# Altium schematic symbol library SG_SCH_Power_Management.SchLib: 80 symbols
Pins are listed as number, name and electrical type; pins without a type are passive.

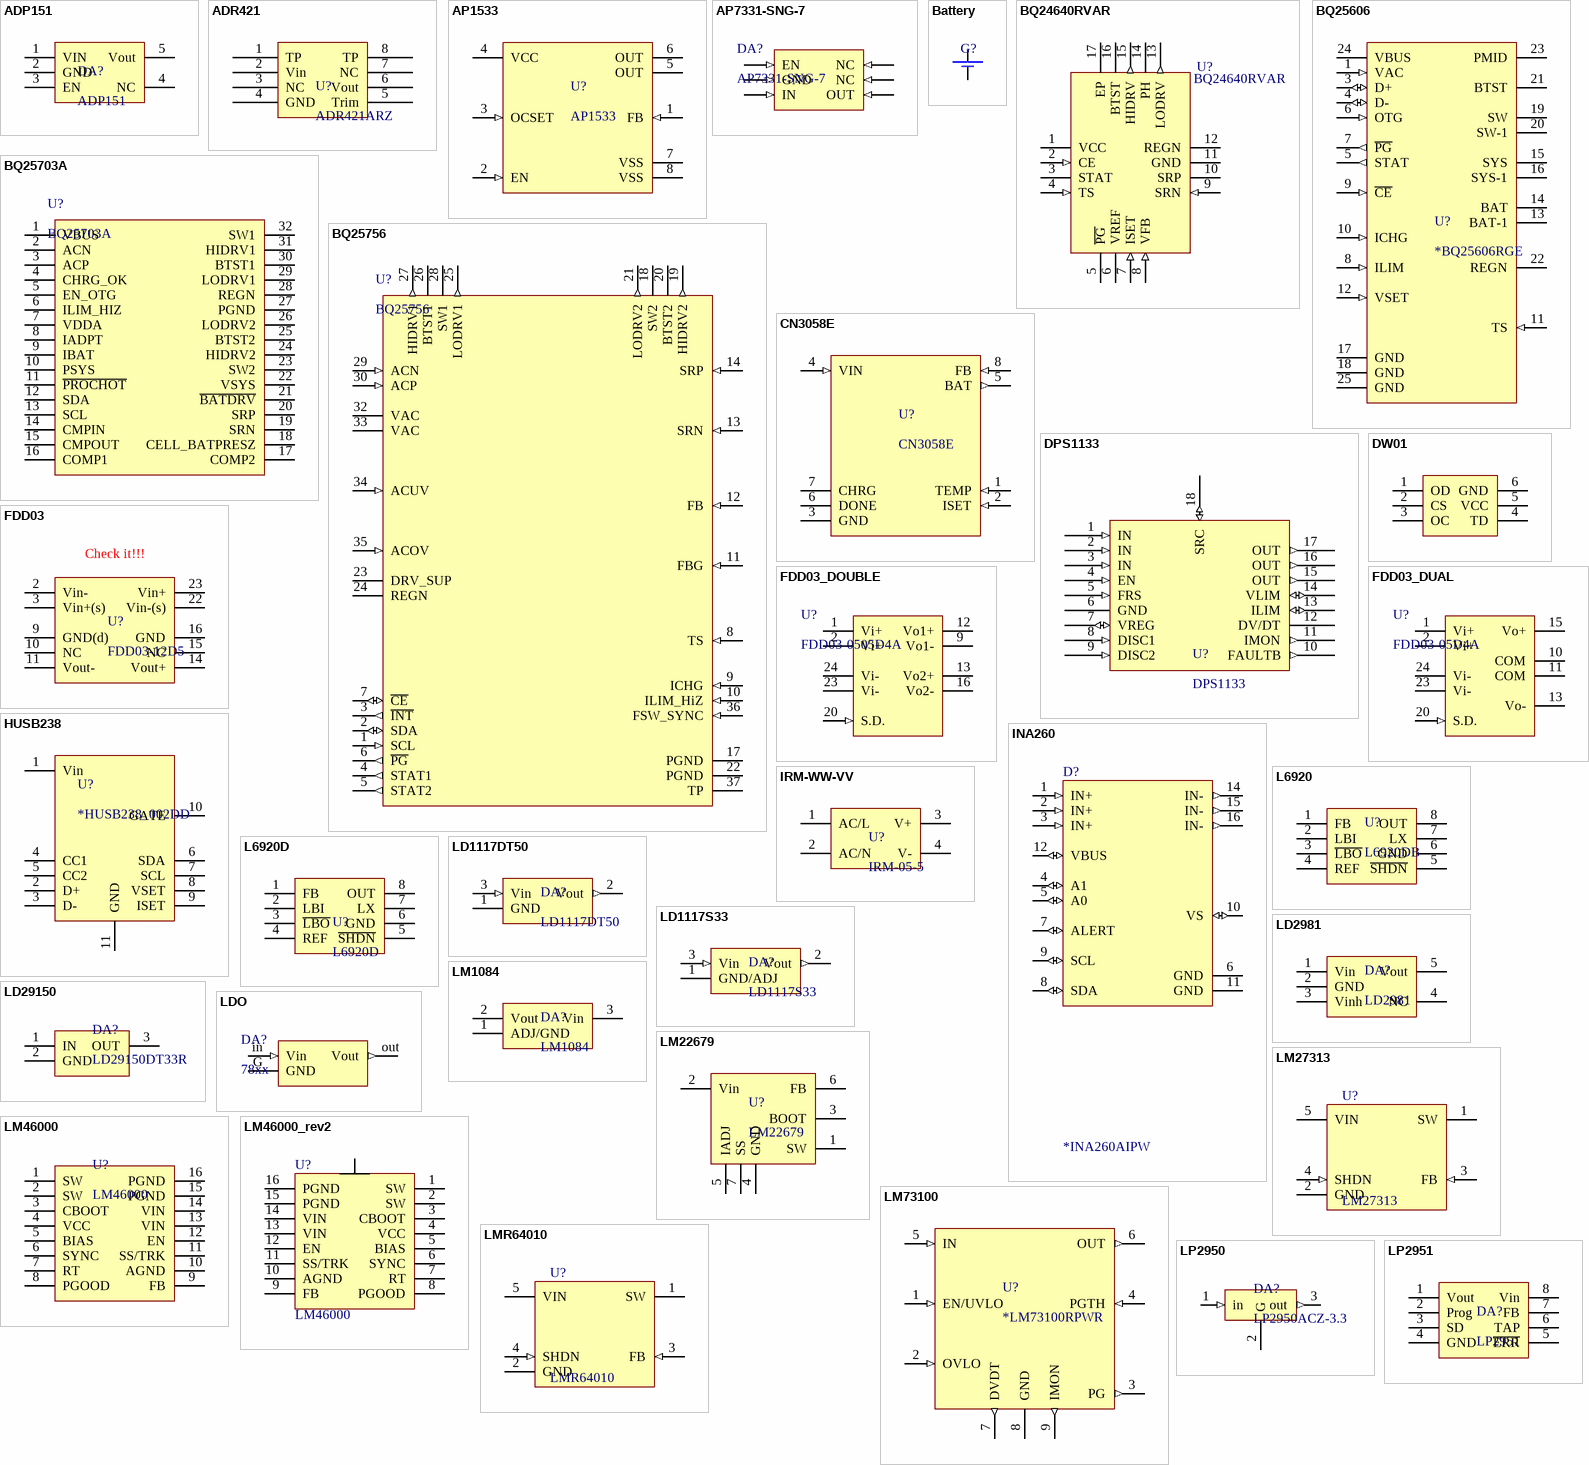
[diagram p0: symbols ADP151 to LP2951]

## ADP151
designator DA?
Ultralow Noise, 200 mA,CMOS Linear Regulator; DefaultOrder: ADP151AUJZ-1.8-R7; Original Source: AltTabLibrary; Order: *; LCSC Part: *
footprint SOT23-5
pins: 1 VIN (power), 2 GND (power), 3 EN, 4 NC, 5 Vout (power)

## ADR421
designator U?, comment ADR421ARZ
2.5V Ref Gen; Original Source: AltTabLibrary; Order: *; DefaultOrder: *; LCSC Part: *
footprint SO-8 (Small Outline; 8 Leads; Body Width 3.9 mm; Pitch 1.27 mm)
pins: 1 TP, 2 Vin, 3 NC, 4 GND, 5 Trim, 6 Vout, 7 NC, 8 TP

## AP1533
designator U?
PWM CONTROL 1.8A STEP-DOWN CONVERTER; OriginalSource: BMChargerEval; Order: *
pins: 1 FB (in), 2 EN (in), 3 OCSET (in), 4 VCC (power), 5 OUT (power), 6 OUT (power), 7 VSS (power), 8 VSS (power)

## AP7331-SNG-7
designator DA?
LDO 3.3V; Original Source: AltTabLibrary; Order: *; DefaultOrder: *; LCSC Part: *
footprint DFN-6N_AP7331-SNG-7 (QFN, 6-Leads, Body 2,01x2,01mm, Pitch 0,65mm, Thermal Pad 1,55x0,86mm, IPC Medium Density)
pins: 1 EN (in), 2 GND (in), 3 IN (in), 4 OUT (in), 5 NC (in), 6 NC (in)

## Battery
designator G?  (value not drawn)
BATTERY SLOT or CONNECTOR; Original Source: AltTabLibrary; Order: *; DefaultOrder: *; LCSC Part: *
footprint BH-642
footprint 2wire; pin to pad A>2 K>1
footprint CWF-2
footprint PLS-2-2.54
pins: A (power), K (power)

## BQ24640RVAR
designator U?
High-efficiency Synchronous Switched-Mode Super Capacitor Charger; Original Source: Charger Sch by AnRx; Datasheet Link: http://componentsearchengine.com/Datasheets/1/BQ24640RVAR.pdf; Height: 1mm; Order: BQ24640RVAR; DefaultOrder: BQ24640RVAR; LCSC Part: *
footprint QFN50P350X350X100-17N-D
pins: 1 VCC (power), 2 CE (in), 3 STAT (oc), 4 TS (in), 5 ~{PG} (oc), 6 VREF (power), 7 ISET (in), 8 VFB (in), 9 SRN (in), 10 SRP (power), 11 GND (power), 12 REGN (power), 13 LODRV (out), 14 PH (power), 15 HIDRV (out), 16 BTST (power), 17 EP (power)

## BQ25606
designator U?, comment *BQ25606RGE
Stand Alone single cell 3-A Fast charger with High input voltageand Power Path 24-VQFN -40 to 85; Order: *BQ25606RGE
footprint QFN-24 (BQ25606) (Footprint not found)
pins: 1 VAC (in), 3 D+ (io), 4 D- (io), 5 STAT (out), 6 OTG (in), 7 ~{PG} (out), 8 ILIM (in), 9 ~{CE} (in), 10 ICHG (in), 11 TS (in), 12 VSET (in), 13 BAT-1 (power), 14 BAT (power), 15 SYS (power), 16 SYS-1 (power), 17 GND (power), 18 GND (power), 19 SW (power), 20 SW-1 (power), 21 BTST (power), 22 REGN (power), 23 PMID (power), 24 VBUS (power), 25 GND (power)

## BQ25703A
designator U?
CHRG; Original Source: AltTabLibrary; Order: *; DefaultOrder: *; LCSC Part: *
footprint BQ25703A (QFN, 32-Leads, Body 4,00x4,00mm, Pitch 0,40mm, Thermal Pad 2,80x2,80mm, IPC Medium Density)
pins: 1 VBUS, 2 ACN, 3 ACP, 4 CHRG_OK, 5 EN_OTG, 6 ILIM_HIZ, 7 VDDA, 8 IADPT, 9 IBAT, 10 PSYS, 11 ~{PROCHOT}, 12 SDA, 13 SCL, 14 CMPIN, 15 CMPOUT, 16 COMP1, 17 COMP2, 18 CELL_BATPRESZ, 19 SRN, 20 SRP, 21 ~{BATDRV}, 22 VSYS, 23 SW2, 24 HIDRV2, 25 BTST2, 26 LODRV2, 27 PGND, 28 REGN, 29 LODRV1, 30 BTST1, 31 HIDRV1, 32 SW1

## BQ25756
designator U?
Standalone/I2C Controlled, 1- to 14-Cell Bidirectional Buck-Boost Battery / Charge Controller with MPPT; Order: *BQ25756
footprint VQFN-36 (BQ25756) (QFN, 36-Leads, Body 5,00x6,00mm, Pitch 0,50mm, Thermal Pad 3,60x4,60mm, IPC Medium Density)
pins: 1 SCL (in), 2 SDA (io), 3 ~{INT} (out), 4 STAT1 (out), 5 STAT2 (out), 6 ~{PG} (out), 7 ~{CE} (io), 8 TS (in), 9 ICHG (in), 10 ILIM_HiZ (in), 11 FBG (in), 12 FB (in), 13 SRN (in), 14 SRP (in), 17 PGND (power), 18 SW2 (power), 19 HIDRV2 (out), 20 BTST2 (power), 21 LODRV2 (out), 22 PGND (power), 23 DRV_SUP (power), 24 REGN (power), 25 LODRV1 (out), 26 BTST1 (power), 27 HIDRV1 (out), 28 SW1 (power), 29 ACN (in), 30 ACP (in), 32 VAC (power), 33 VAC (power), 34 ACUV (in), 35 ACOV (in), 36 FSW_SYNC (in), 37 TP (power)

## CN3058E
designator U?
Order: CN3058E
footprint SO-8 (Small Outline; 8 Leads; Body Width 3.9 mm; Pitch 1.27 mm)
pins: 1 TEMP (in), 2 ISET (in), 3 GND (power), 4 VIN (in), 5 BAT (out), 6 DONE (oc), 7 CHRG (oc), 8 FB (in)

## DPS1133
designator U?
Intellegent switch
pins: 1 IN (in), 2 IN (in), 3 IN (in), 4 EN (in), 5 FRS (in), 6 GND (power), 7 VREG (io), 8 DISC1 (in), 9 DISC2 (in), 10 FAULTB (out), 11 IMON (out), 12 DV/DT, 13 ILIM (io), 14 VLIM (io), 15 OUT (out), 16 OUT (out), 17 OUT (out), 18 SRC (io)

## DW01
designator DD?  (value not drawn)
BMS; Original Source: AltTabLibrary; Order: *; DefaultOrder: *; LCSC Part: *
footprint SOT23-6
pins: 1 OD, 2 CS, 3 OC, 4 TD, 5 VCC, 6 GND

## FDD03
designator U?, comment FDD03-12D5
Original Source: AltTabLibrary; Order: *; DefaultOrder: *; LCSC Part: *
pins: 2 Vin-, 3 Vin+(s), 9 GND(d), 10 NC, 11 Vout-, 14 Vout+, 15 NC, 16 GND, 22 Vin-(s), 23 Vin+
text: Check it!!!

## FDD03_DOUBLE
designator U?, comment FDD03-0505D4A
2.5-3W Double output DC/DC isolated module converter / 9..36Vin; Original Source: AltTabLibrary; Order: *; DefaultOrder: FDD03-0505D4A; LCSC Part: *
footprint MODULE_FDD03
pins: 1 Vi+ (power), 2 Vi+ (power), 9 Vo1- (power), 12 Vo1+ (power), 13 Vo2+ (power), 16 Vo2- (power), 20 S.D. (in), 23 Vi- (power), 24 Vi- (power)

## FDD03_DUAL
designator U?, comment FDD03-05D4A
2.5-3W Dual output DC/DC isolated module converter / 9..36Vin; Original Source: AltTabLibrary; Order: *; DefaultOrder: FDD03-05D4A; LCSC Part: *
footprint FDD03 (Footprint not found)
pins: 1 Vi+ (power), 2 Vi+ (power), 10 COM (power), 11 COM (power), 13 Vo- (power), 15 Vo+ (power), 20 S.D. (in), 23 Vi- (power), 24 Vi- (power)

## HUSB238
designator U?, comment *HUSB238_002DD
USB Type-C Power Delivery Sink / Controller; Order: *HUSB238_002DD
footprint DFN-10L (Footprint not found)
pins: 1 Vin, 2 D+, 3 D-, 4 CC1, 5 CC2, 6 SDA, 7 SCL, 8 VSET, 9 ISET, 10 GATE, 11 GND

## INA260
designator D?, comment *INA260AIPW
36V, 16-bit, precision i2c output current/voltage/power monitor w/ int. shunt resistor; Order: *INA260AIPW
footprint TSSOP-16
pins: 1 IN+ (in), 2 IN+ (in), 3 IN+ (in), 4 A1 (io), 5 A0 (io), 6 GND (power), 7 ALERT (io), 8 SDA (io), 9 SCL (io), 10 VS (io), 11 GND (power), 12 VBUS (io), 14 IN- (out), 15 IN- (out), 16 IN- (out)

## IRM-WW-VV
designator U?, comment IRM-05-5
WW Watt Single Output Encapsulated AC/DC VV Volt out; Original Source: AltTabLibrary; Order: *; DefaultOrder: IRM-05-5; LCSC Part: *
pins: 1 AC/L, 2 AC/N, 3 V+, 4 V-

## L6920
designator U?, comment L6920DB
IC DC-DC setp-up; Original Source: AltTabLibrary; DefaultOrder: L6920DB; Order: *; LCSC Part: *
footprint uSOP-8 (Footprint not found)
pins: 1 FB, 2 LBI, 3 ~{LBO}, 4 REF, 5 ~{SHDN}, 6 GND, 7 LX, 8 OUT

## L6920D
designator U?
step up DC-DC; Original Source: AltTabLibrary; DefaultOrder: L6920D; Order: *; LCSC Part: *
footprint TSSOP8 (TSOP, 8-Leads, Body 3,1x4,5mm (max), Pitch 0,65mm, IPC Medium Density)
pins: 1 FB, 2 LBI, 3 ~{LBO}, 4 REF, 5 ~{SHDN}, 6 GND, 7 LX, 8 OUT

## LD1117DT50
designator DA?
LDO 5V; DefaultOrder: LD1117DT50CTR; Original Source: AltTabLibrary; Order: *; LCSC Part: *
footprint TO-252
pins: 1 GND (power), 2 Vout (out), 3 Vin (in)

## LD1117S33
designator DA?
LDO 3.3V; Original Source: AltTabLibrary; DefaultOrder: LD1117S33; Order: *; LCSC Part: *
footprint SOT223
pins: 1 GND/ADJ (power), 2 Vout (out), 3 Vin (in)

## LD2981
designator DA?
Ultra low drop voltage regulator; Original Source: AltTabLibrary; Order: *; HelpURL: *; DefaultOrder: *; LCSC Part: *
footprint SOT23-5
pins: 1 Vin, 2 GND, 3 Vinh, 4 NC, 5 Vout

## LD29150
designator DA?, comment LD29150DT33R
VLDO; Original Source: AltTabLibrary; DefaultOrder: LD29150DT33R; Order: *; LCSC Part: *
footprint DPAK(TO-252)
pins: 1 IN, 2 GND, 3 OUT

## LDO
designator DA?, comment 78xx
Voltage regulator; Original Source: AltTabLibrary; Order: *; DefaultOrder: *; LCSC Part: *
pins: G GND (power), in Vin (in), out Vout (out)

## LM1084
designator DA?
Original Source: AltTabLibrary; DefaultOrder: LM1084; Order: *; LCSC Part: *
footprint TO-220
pins: 1 ADJ/GND, 2 Vout, 3 Vin

## LM22679
designator U?
Buck DC-DC; DefaultOrder: LM22679TJE-ADJ/NOPB; Original Source: AltTabLibrary; Order: *; LCSC Part: *
pins: 1 SW, 2 Vin, 3 BOOT, 4 GND, 5 IADJ, 6 FB, 7 SS

## LM27313
designator U?
1.6-MHz Boost Converter With 30-V Internal FET Switch; OriginalSource: MiniSat radio powerful; Order: *
footprint sop (Footprint not found)
footprint SOT23-5
pins: 1 SW (power), 2 GND (power), 3 FB (in), 4 SHDN (in), 5 VIN (power)

## LM46000
designator U?
DCDC; Original Source: AltTabLibrary; Order: *; HelpURL: *; DefaultOrder: *; LCSC Part: *
footprint HTSOOP-16 (Footprint not found)
pins: 1 SW, 2 SW, 3 CBOOT, 4 VCC, 5 BIAS, 6 SYNC, 7 RT, 8 PGOOD, 9 FB, 10 AGND, 11 SS/TRK, 12 EN, 13 VIN, 14 VIN, 15 PGND, 16 PGND

## LM46000_rev2
designator U?, comment LM46000
DCDC; DefaultOrder: LM46000PWP; Original Source: AltTabLibrary; HelpURL: *; Order: *; LCSC Part: *
footprint TSSOP-16H (Footprint not found)
pins: 1 SW, 2 SW, 3 CBOOT, 4 VCC, 5 BIAS, 6 SYNC, 7 RT, 8 PGOOD, 9 FB, 10 AGND, 11 SS/TRK, 12 EN, 13 VIN, 14 VIN, 15 PGND, 16 PGND, 17 PAD

## LM73100
designator U?, comment *LM73100RPWR
2.7-V to 23-V, 28-mOhm, 5.5-A load switch with integrated ideal diode & overvoltage protection; Order: *LM73100RPWR
footprint QFN-10 (LM73100RPWR) (Footprint not found)
pins: 1 EN/UVLO (in), 2 OVLO (in), 3 PG (out), 4 PGTH (in), 5 IN (in), 6 OUT (out), 7 DVDT (out), 8 GND (power), 9 IMON (out)

## LMR64010
designator U?
DefaultOrder: LMR64010XMFE/NOPB; OriginalSource: MiniSat radio powerful; Order: *
footprint sop (Footprint not found)
footprint SOT23-5
pins: 1 SW (power), 2 GND (power), 3 FB (in), 4 SHDN (in), 5 VIN (power)

## LP2950
designator DA?, comment LP2950ACZ-3.3
LDO 3.3V 100mA; Original Source: AltTabLibrary; Order: *; DefaultOrder: *; LCSC Part: *
footprint TO-92
pins: 1 in (in), 2 G (power), 3 out (out)

## LP2951
designator DA?
Original Source: AltTabLibrary; Order: *; HelpURL: *; DefaultOrder: *; LCSC Part: *
footprint SO-8 (Small Outline; 8 Leads; Body Width 3.9 mm; Pitch 1.27 mm)
pins: 1 Vout, 2 Prog, 3 SD, 4 GND, 5 ~{ERR}, 6 TAP, 7 FB, 8 Vin

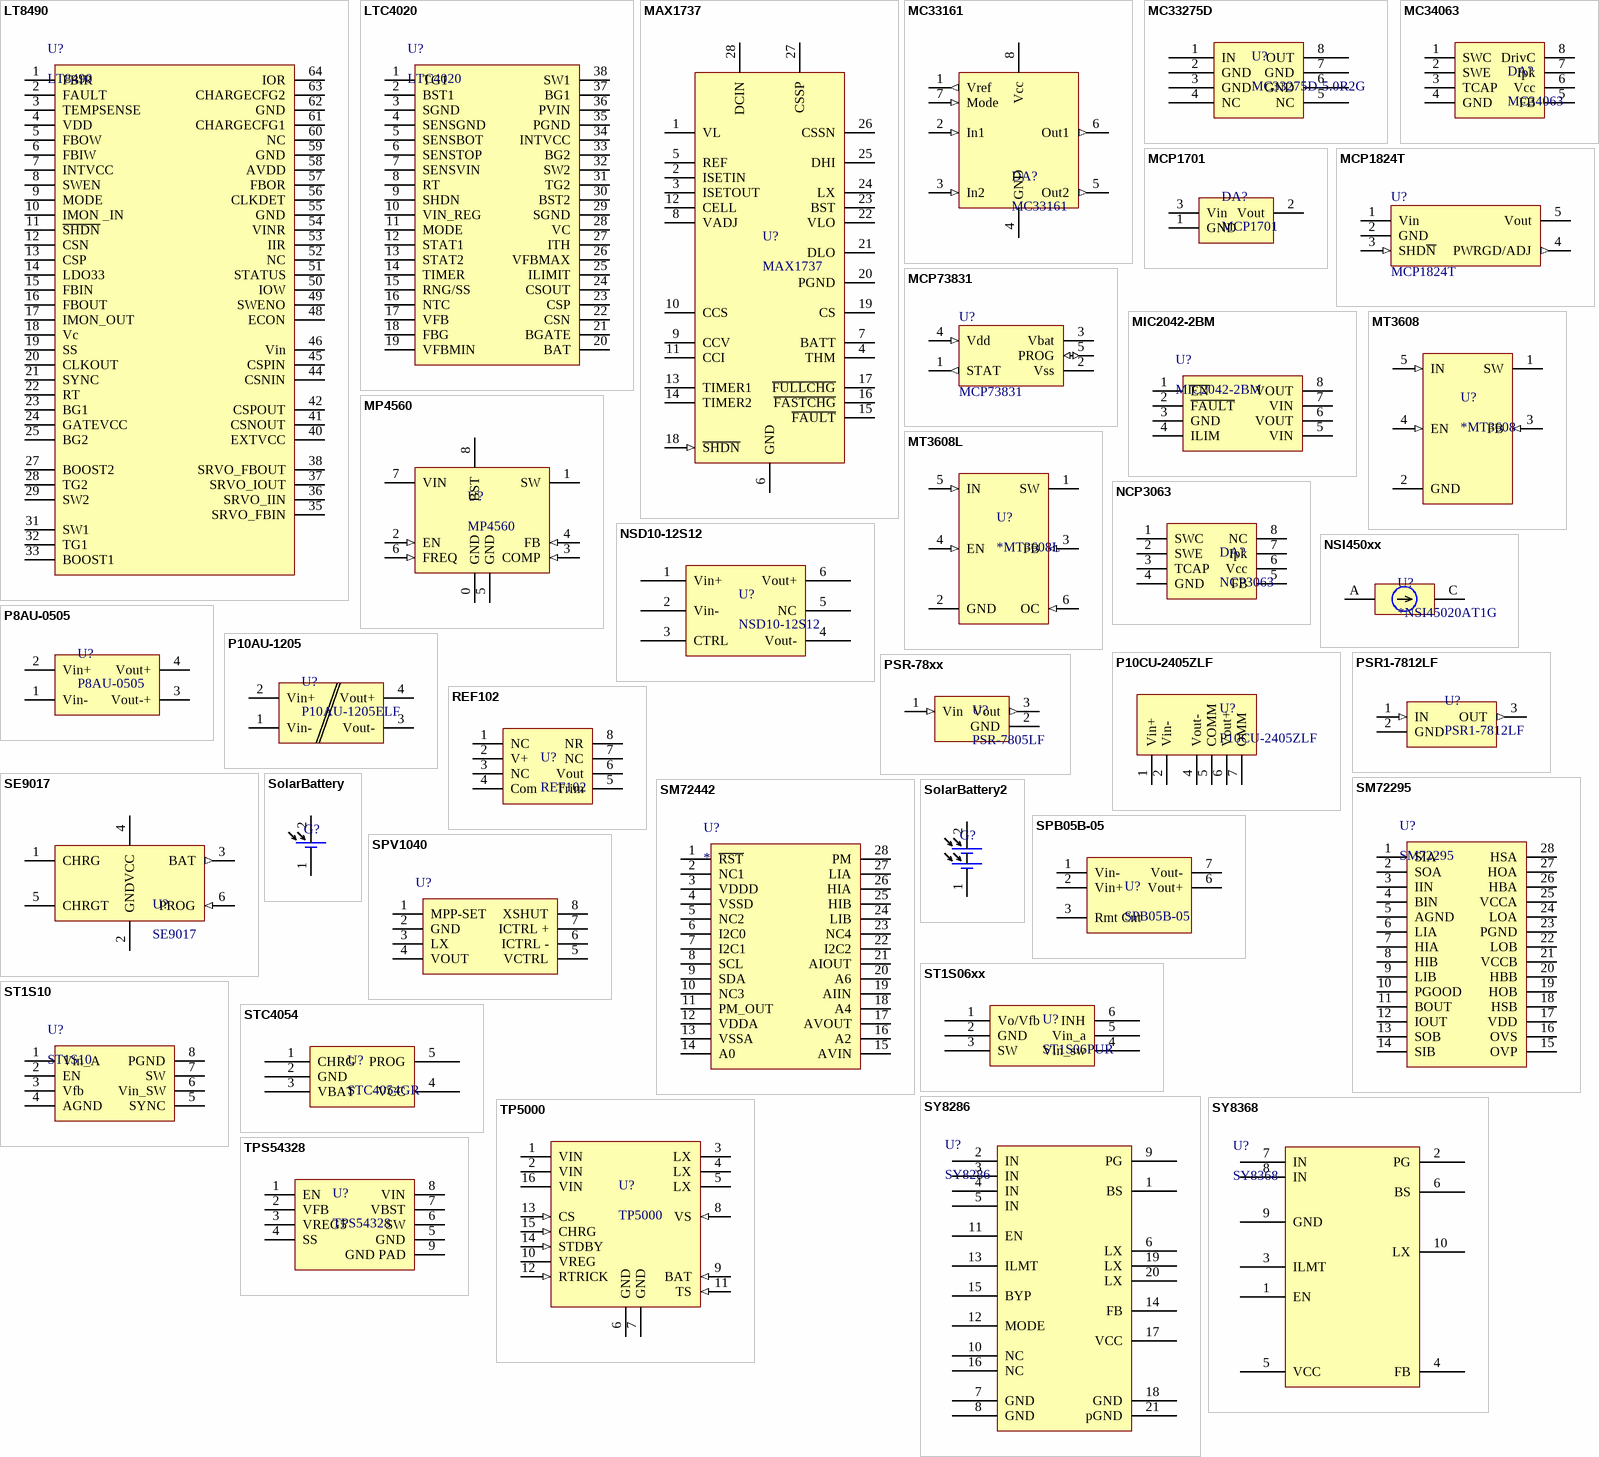
[diagram p1: symbols LT8490 to TPS54328]

## LT8490
designator U?
MPPT; Original Source: AltTabLibrary; Order: *; DefaultOrder: *; LCSC Part: *
footprint LT8490
pins: 1 FBIR, 2 FAULT, 3 TEMPSENSE, 4 VDD, 5 FBOW, 6 FBIW, 7 INTVCC, 8 SWEN, 9 MODE, 10 IMON _IN, 11 ~{SHDN}, 12 CSN, 13 CSP, 14 LDO33, 15 FBIN, 16 FBOUT, 17 IMON_OUT, 18 Vc, 19 SS, 20 CLKOUT, 21 SYNC, 22 RT, 23 BG1, 24 GATEVCC, 25 BG2, 27 BOOST2, 28 TG2, 29 SW2, 31 SW1, 32 TG1, 33 BOOST1, 35 SRVO_FBIN, 36 SRVO_IIN, 37 SRVO_IOUT, 38 SRVO_FBOUT, 40 EXTVCC, 41 CSNOUT, 42 CSPOUT, 44 CSNIN, 45 CSPIN, 46 Vin, 48 ECON, 49 SWENO, 50 IOW, 51 STATUS, 52 NC, 53 IIR, 54 VINR, 55 GND, 56 CLKDET, 57 FBOR, 58 AVDD, 59 GND, 60 NC, 61 CHARGECFG1, 62 GND, 63 CHARGECFG2, 64 IOR

## LTC4020
designator U?
CHRG; Original Source: AltTabLibrary; Order: *; DefaultOrder: *; LCSC Part: *
footprint LTC4020 (QFN, 38-Leads, Body 5,00x7,00mm, Pitch 0,50mm, Thermal Pad 3,15x5,15mm, IPC Medium Density)
pins: 1 TG1, 2 BST1, 3 SGND, 4 SENSGND, 5 SENSBOT, 6 SENSTOP, 7 SENSVIN, 8 RT, 9 SHDN, 10 VIN_REG, 11 MODE, 12 STAT1, 13 STAT2, 14 TIMER, 15 RNG/SS, 16 NTC, 17 VFB, 18 FBG, 19 VFBMIN, 20 BAT, 21 BGATE, 22 CSN, 23 CSP, 24 CSOUT, 25 ILIMIT, 26 VFBMAX, 27 ITH, 28 VC, 29 SGND, 30 BST2, 31 TG2, 32 SW2, 33 BG2, 34 INTVCC, 35 PGND, 36 PVIN, 37 BG1, 38 SW1

## MAX1737
designator U?
1-4 cell pulse Li-ion charger; DefaultOrder: MAX1737EEI; Original Source: AltTabLibrary; Order: *; LCSC Part: *
pins: 1 VL, 2 ISETIN, 3 ISETOUT, 4 THM, 5 REF, 6 GND, 7 BATT, 8 VADJ, 9 CCV, 10 CCS, 11 CCI, 12 CELL, 13 TIMER1, 14 TIMER2, 15 ~{FAULT}, 16 ~{FASTCHG}, 17 ~{FULLCHG}, 18 ~{SHDN} (in), 19 CS, 20 PGND, 21 DLO, 22 VLO, 23 BST, 24 LX, 25 DHI, 26 CSSN, 27 CSSP, 28 DCIN

## MC33161
designator DA?
Universal Voltage Monitor; Order: *MC33161D
footprint SO-8 (Small Outline; 8 Leads; Body Width 3.9 mm; Pitch 1.27 mm)
pins: 1 Vref (out), 2 In1 (in), 3 In2 (in), 4 GND (power), 5 Out2 (out), 6 Out1 (out), 7 Mode (in), 8 Vcc (power)

## MC33275D
designator U?, comment MC33275D-5.0R2G
LDO 5V; Original Source: AltTabLibrary; Order: *; DefaultOrder: *; LCSC Part: *
footprint SO-8 (Small Outline; 8 Leads; Body Width 3.9 mm; Pitch 1.27 mm)
pins: 1 IN, 2 GND, 3 GND, 4 NC, 5 NC, 6 GND, 7 GND, 8 OUT

## MC34063
designator DA?
Basic DC-DC IC; Original Source: AltTabLibrary; Order: *; DefaultOrder: *; LCSC Part: *
footprint SO-8 (Small Outline; 8 Leads; Body Width 3.9 mm; Pitch 1.27 mm)
pins: 1 SWC, 2 SWE, 3 TCAP, 4 GND, 5 FB, 6 Vcc, 7 Ipk, 8 DrivC

## MCP1701
designator DA?
2uA LDO 1.8 - 5.0 V out; DefaultOrder: MCP1701T-5002I/CB; Original Source: AltTabLibrary; Order: *; LCSC Part: *
footprint SOT23-3
pins: 1 GND, 2 Vout, 3 Vin

## MCP1824T
designator U?
LDO from 0.8V to 5V; DefaultOrder: MCP1824T-ADJE/OT; Order: *
footprint SOT23-5
pins: 1 Vin (power), 2 GND (power), 3 SHD~{N} (in), 4 PWRGD/ADJ (out), 5 Vout (power)

## MCP73831
designator U?
Ldo Charge  Li-Ion Four Voltage Regulation Options: / - 4.20V, 4.35V, 4.40V, 4.50V; Order: *MCP73831T-2ATI/OT
footprint SOT23-5
pins: 1 STAT (out), 2 Vss (power), 3 Vbat (power), 4 Vdd (in), 5 PROG (io)

## MIC2042-2BM
designator U?
Protected Power; Original Source: AltTabLibrary; Order: *; DefaultOrder: *; LCSC Part: *
footprint HSOP-8 (SOP, 8-Leads, Body 4,90x3,90mm, Pitch 1,27mm, Thermal Pad 3,10x2,40mm, IPC Medium Density)
pins: 1 ~{EN}, 2 ~{FAULT}, 3 GND, 4 ILIM, 5 VIN, 6 VOUT, 7 VIN, 8 VOUT

## MP4560
designator U?
2A, 2MHz, 55V Step-Down Converter; Order: *MP4560DN-LF-Z
footprint SO-8 PowerPad (Small Outline; 8 Leads; Body Width 3.9 mm; Pitch 1.27 mm)
pins: 0 GND (power), 1 SW (power), 2 EN (in), 3 COMP (in), 4 FB (in), 5 GND (power), 6 FREQ (in), 7 VIN (power), 8 BST (power)

## MT3608
designator U?, comment *MT3608
High Efficiency 1.2MHz 2A Step Up Converter; Order: *MT3608
footprint SOT23-6
pins: 1 SW (power), 2 GND (power), 3 FB (in), 4 EN (in), 5 IN (in)

## MT3608L
designator U?, comment *MT3608L
High Efficiency 1.2MHz 2A Step Up Converter with adjustable current limit; Order: *MT3608L
footprint SOT23-6
pins: 1 SW (power), 2 GND (power), 3 FB (in), 4 EN (in), 5 IN (in), 6 OC (in)

## NCP3063
designator DA?
Basic DC-DC IC; Original Source: AltTabLibrary; Order: *; DefaultOrder: *; LCSC Part: *
footprint SO-8 (Small Outline; 8 Leads; Body Width 3.9 mm; Pitch 1.27 mm)
pins: 1 SWC, 2 SWE, 3 TCAP, 4 GND, 5 FB, 6 Vcc, 7 Ipk, 8 NC

## NSD10-12S12
designator U?
Original Source: AltTabLibrary; Order: *; DefaultOrder: *; LCSC Part: *
pins: 1 Vin+, 2 Vin-, 3 CTRL, 4 Vout-, 5 NC, 6 Vout+

## NSI450xx
designator U?, comment *NSI45020AT1G
Constant Current Regulator; Regulated current: *20mA; Order: *NSI45020AT1G
footprint SOD-123N (SODFL, 2-Leads, Body 1,80x3,65mm, IPC Medium Density)
pins: A, C

## P8AU-0505
designator U?
DefaultOrder: P8AU-0505ELF; Original Source: AltTabLibrary; Order: *; LCSC Part: *
footprint SIP4
pins: 1 Vin-, 2 Vin+, 3 Vout-+, 4 Vout+

## P10AU-1205
designator U?, comment P10AU-1205ELF
Isolated DC-DC 12-to-5V; Original Source: AltTabLibrary; DefaultOrder: P10AU-1205ELF; Order: *; LCSC Part: *
footprint SIP4
pins: 1 Vin-, 2 Vin+, 3 Vout-, 4 Vout+

## P10CU-2405ZLF
designator U?
DC-DC +-5V regulator; Original Source: AltTabLibrary; DefaultOrder: P10CU-2405ZLF; Order: *; LCSC Part: *
pins: 1 Vin+, 2 Vin-, 4 Vout-, 5 COMM, 6 Vout+, 7 OMM

## PSR1-7812LF
designator U?
Original Source: AltTabLibrary; Order: *; DefaultOrder: *; LCSC Part: *
pins: 1 IN (in), 2 GND (power), 3 OUT (out)

## PSR-78xx
designator U?, comment PSR-7805LF
DC-DC regulator; Original Source: AltTabLibrary; DefaultOrder: PSR-7805LF; Order: *; LCSC Part: *
footprint SIP-3 (Footprint not found)
pins: 1 Vin (in), 2 GND (power), 3 Vout (out)

## REF102
designator U?
Original Source: AltTabLibrary; Order: *; DefaultOrder: *; LCSC Part: *
footprint SO-8 (Small Outline; 8 Leads; Body Width 3.9 mm; Pitch 1.27 mm)
pins: 1 NC, 2 V+, 3 NC, 4 Com, 5 Trim, 6 Vout, 7 NC, 8 NR

## SE9017
designator U?
Lithium Battery Charger 4,2V; DefaultOrder: SE9017-HF; Order: *
pins: 1 CHRG (oc), 2 GND (power), 3 BAT (out), 4 VCC (power), 5 CHRGT (oc), 6 PROG (in)

## SM72295
designator U?
DRIVER; Original Source: AltTabLibrary; Order: *; DefaultOrder: *; LCSC Part: *
footprint SOIC127P1030X265-28N (SOIC, 28-Leads, Body 17,90x7,50mm, Pitch 1,27mm, IPC Medium Density)
pins: 1 SIA, 2 SOA, 3 IIN, 4 BIN, 5 AGND, 6 LIA, 7 HIA, 8 HIB, 9 LIB, 10 PGOOD, 11 BOUT, 12 IOUT, 13 SOB, 14 SIB, 15 OVP, 16 OVS, 17 VDD, 18 HSB, 19 HOB, 20 HBB, 21 VCCB, 22 LOB, 23 PGND, 24 LOA, 25 VCCA, 26 HBA, 27 HOA, 28 HSA

## SM72442
designator U?
MPPT; Original Source: AltTabLibrary; Order: *; DefaultOrder: *; LCSC Part: *
footprint TSOP65P640X120-28N (TSOP, 28-Leads, Body 9,70x4,40mm, Pitch 0,65mm, IPC Medium Density)
pins: 1 ~{RST}, 2 NC1, 3 VDDD, 4 VSSD, 5 NC2, 6 I2C0, 7 I2C1, 8 SCL, 9 SDA, 10 NC3, 11 PM_OUT, 12 VDDA, 13 VSSA, 14 A0, 15 AVIN, 16 A2, 17 AVOUT, 18 A4, 19 AIIN, 20 A6, 21 AIOUT, 22 I2C2, 23 NC4, 24 LIB, 25 HIB, 26 HIA, 27 LIA, 28 PM

## SolarBattery
designator G?, comment Solar battery  (value not drawn)
Solar battery or cell; Original Source: AltTabLibrary; Order: *; DefaultOrder: *; LCSC Part: *
footprint 2wire
pins: 1 (power), 2 (power)

## SolarBattery2
designator G?, comment Solar battery  (value not drawn)
Solar battery or cell; Original Source: AltTabLibrary; Order: *; DefaultOrder: *; LCSC Part: *
footprint 2wire
pins: 1 (power), 2 (power)

## SPB05B-05
designator U?
DC-DC модульный - SIP8; P вых: 5 Вт; U вх: 18...36 В; Выход: 5 В; Original Source: AltTabLibrary; DefaultOrder: SPB05B-05; HelpURL: *; Order: *; LCSC Part: *
footprint SPB05B-05
pins: 1 Vin-, 2 Vin+, 3 Rmt Cnt, 6 Vout+, 7 Vout-

## SPV1040
designator U?  (value not drawn)
MPPT; Original Source: AltTabLibrary; Order: *; DefaultOrder: *; LCSC Part: *
footprint SPV1040 (TSOP, 8-Leads, Body 3,00x4,40mm, Pitch 0,65mm, IPC Medium Density)
pins: 1 MPP-SET, 2 GND, 3 LX, 4 VOUT, 5 VCTRL, 6 ICTRL -, 7 ICTRL +, 8 XSHUT

## ST1S06xx
designator U?, comment ST1S06PUR
1.5A step-down dc-dc; Original Source: AltTabLibrary; DefaultOrder: ST1S06PUR; Order: *; LCSC Part: *
footprint VDFN-6 (Footprint not found)
pins: 1 Vo/Vfb, 2 GND, 3 SW, 4 Vin_sw, 5 Vin_a, 6 INH

## ST1S10
designator U?
BUCK; Original Source: AltTabLibrary; Order: *; DefaultOrder: *; LCSC Part: *
footprint DFN8_ST1S10PUR (PSON, 8-Leads, Body 4,00x4,00mm, Pitch 0,80mm, Thermal Pad 3,03x2,18mm, IPC Medium Density)
pins: 1 Vin_A, 2 EN, 3 Vfb, 4 AGND, 5 SYNC, 6 Vin_SW, 7 SW, 8 PGND

## STC4054
designator U?, comment STC4054GR
Li-ion charger; Original Source: AltTabLibrary; DefaultOrder: STC4054GR; Order: *; LCSC Part: *
footprint SOT23-5
pins: 1 CHRG, 2 GND, 3 VBAT, 4 VCC, 5 PROG

## SY8286
designator U?
DC-DC synchronous step-down convertor 4-23V 6A; Original Source: AltTabLibrary; Order: *; DefaultOrder: *; LCSC Part: *
footprint QFN-20M_SY8286A (QFN, 20-Leads, Body 3,00x3,00mm, Pitch 0,45mm, Thermal Pad 1,00x1,00mm, IPC Low Density)
pins: 1 BS, 2 IN (power), 3 IN (power), 4 IN (power), 5 IN (power), 6 LX (power), 7 GND (power), 8 GND (power), 9 PG, 10 NC, 11 EN, 12 MODE, 13 ILMT, 14 FB, 15 BYP, 16 NC, 17 VCC, 18 GND (power), 19 LX (power), 20 LX (power), 21 pGND (power)

## SY8368
designator U?
DC-DC synchronous step-down convertor 4-28V 8A; Original Source: AltTabLibrary; Order: *; DefaultOrder: *; LCSC Part: *
footprint QFN-10N_SY8368 (QFN, 24-Leads, Body 3,00x3,00mm, Pitch 0,45mm, IPC Low Density)
pins: 1 EN (power), 2 PG (power), 3 ILMT (power), 4 FB (power), 5 VCC, 6 BS, 7 IN, 8 IN, 9 GND, 10 LX

## TP5000
designator U?
DC-DC battery charger; OriginalSource: AltSob, ALKY; Order: TP5000
pins: 1 VIN (power), 2 VIN (power), 3 LX (power), 4 LX (power), 5 LX (power), 6 GND (power), 7 GND (power), 8 VS (in), 9 BAT (in), 10 VREG (power), 11 TS (in), 12 RTRICK (in), 13 CS (in), 14 STDBY (in), 15 CHRG (in), 16 VIN (power)

## TPS54328
designator U?
DC-DC step-down convertor 4.5-18V 3A; Order: *TPS54328DDA; HelpURL: https://www.ti.com/lit/ds/symlink/tps54328.pdf
footprint HSOP-8 (Footprint not found)
pins: 1 EN, 2 VFB, 3 VREG5, 4 SS, 5 GND, 6 SW, 7 VBST, 8 VIN, 9 GND PAD

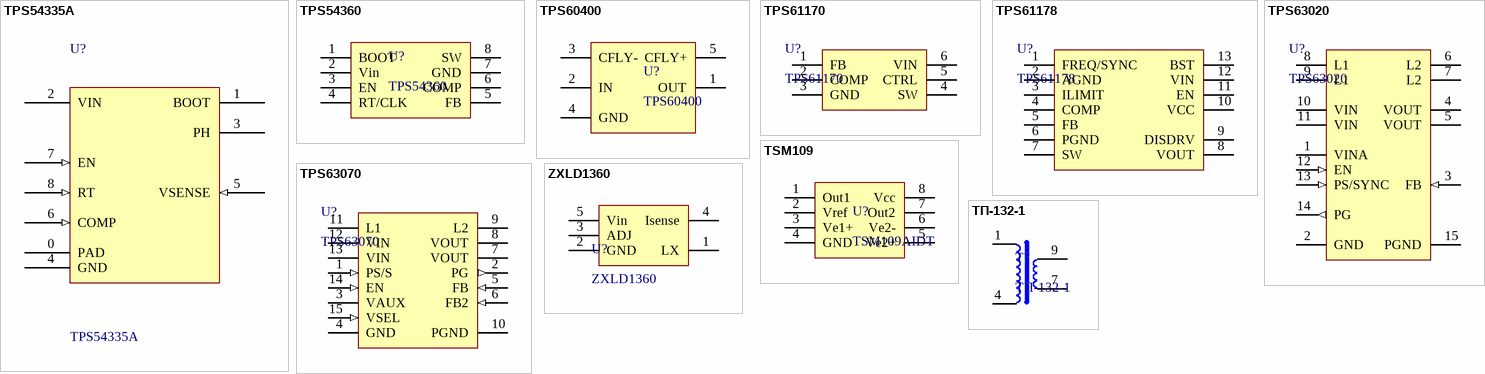
[diagram p2: symbols TPS54335A to ТП-132-1]

## TPS54335A
designator U?
4.5-V to 28-V Input, 3-A Output, Synchronous Step-Down DC-DC Converter; DefaultOrder: TPS54335ADDA; Original Source: TRX; Order: *
pins: 0 PAD (power), 1 BOOT (power), 2 VIN (power), 3 PH (power), 4 GND (power), 5 VSENSE (in), 6 COMP (in), 7 EN (in), 8 RT (in)

## TPS54360
designator U?
DC-DC step-down convertor 4.5-60V 3.5A; Original Source: AltTabLibrary; Order: *; HelpURL: *; DefaultOrder: *; LCSC Part: *
footprint HSOIC-8 (Footprint not found)
pins: 1 BOOT, 2 Vin, 3 EN, 4 RT/CLK, 5 FB, 6 COMP, 7 GND, 8 SW

## TPS60400
designator U?
DC-DC  power Invertor (1.6-5.5V); OriginalSource: AltSob, ALKY; Order: *
footprint SOT23-5
pins: 1 OUT, 2 IN, 3 CFLY-, 4 GND, 5 CFLY+

## TPS61170
designator U?
DC-DC step-up convertor 3-18V 1.2A; Original Source: AltTabLibrary; Order: *; DefaultOrder: *; LCSC Part: *
footprint WSON-6 (SON, 6-Leads, Body 2,00x2,00mm, Pitch 0,65mm, Thermal Pad 1,60x0,75mm, IPC Medium Density)
pins: 1 FB, 2 COMP, 3 GND, 4 SW, 5 CTRL, 6 VIN, 7

## TPS61178
designator U?
DC-DC step-up convertor 2.7-20V 10A; Original Source: AltTabLibrary; Order: *; DefaultOrder: TPS61178; LCSC Part: *
footprint VSON-10
pins: 1 FREQ/SYNC, 2 AGND, 3 ILIMIT, 4 COMP, 5 FB, 6 PGND, 7 SW, 8 VOUT, 9 DISDRV, 10 VCC, 11 EN, 12 VIN, 13 BST

## TPS63020
designator U?
DC-DC buck-boost 3.5A; Original Source: AltTabLibrary; DefaultOrder: TPS63020*; Order: *; LCSC Part: *
footprint QFN-14L_TPS63020 (QFN, 14-Leads, Body 4,00x3,00mm, Pitch 0,50mm, Thermal Pad 2,85x1,58mm, IPC High Density)
footprint QFN-14N_TPS63020 (QFN, 14-Leads, Body 4,00x3,00mm, Pitch 0,50mm, Thermal Pad 2,85x1,58mm, IPC Medium Density)
footprint QFN-14M_TPS63020 (QFN, 14-Leads, Body 4,00x3,00mm, Pitch 0,50mm, Thermal Pad 2,85x1,58mm, IPC Low Density)
pins: 1 VINA (power), 2 GND (power), 3 FB (in), 4 VOUT (power), 5 VOUT (power), 6 L2 (power), 7 L2 (power), 8 L1 (power), 9 L1 (power), 10 VIN (power), 11 VIN (power), 12 EN (in), 13 PS/SYNC (in), 14 PG (out), 15 PGND (power)

## TPS63070
designator U?
DC-DC buck-boost 3.5A; Original Source: AltTabLibrary; DefaultOrder: TPS63070*; Order: *; HelpURL: http://www.ti.com/lit/ds/slvsc58b/slvsc58b.pdf; LCSC Part: *
footprint VQFN-15_TPS63070 (Footprint not found)
pins: 1 PS/S (in), 2 PG (out), 3 VAUX, 4 GND (power), 5 FB (in), 6 FB2 (in), 7 VOUT (power), 8 VOUT (power), 9 L2 (power), 10 PGND (power), 11 L1 (power), 12 VIN (power), 13 VIN (power), 14 EN (in), 15 VSEL (in)

## TSM109
designator U?, comment TSM109AIDT
2.5V Reference; Original Source: AltTabLibrary; DefaultOrder: TSM109AIDT; Order: *; LCSC Part: *
footprint SO-8 (Small Outline; 8 Leads; Body Width 3.9 mm; Pitch 1.27 mm)
pins: 1 Out1, 2 Vref, 3 Ve1+, 4 GND, 5 Ve2+, 6 Ve2-, 7 Out2, 8 Vcc

## ZXLD1360
designator U?
Order: *ZXLD1360ET5TA; DefaultOrder: ZXLD1360ET5TA; ComponentLink1Description: Datasheet; ComponentLink1URL: https://doc.platan.ru/pdf/datasheets/diodes_inc/ZXLD1360.pdf
footprint SOT23-5
pins: 1 LX, 2 GND, 3 ADJ, 4 Isense, 5 Vin

## ТП-132-1
designator T?
Transformer; Original Source: AltTabLibrary; DefaultOrder: ТП-132-1; Order: *; LCSC Part: *
footprint ТП-132-1
pins: 1 (hiz), 4 (hiz), 7 (hiz), 9 (hiz)